# Altium schematic symbol library misc.SchLib: 11 symbols
Pins are listed as number, name and electrical type; pins without a type are passive.

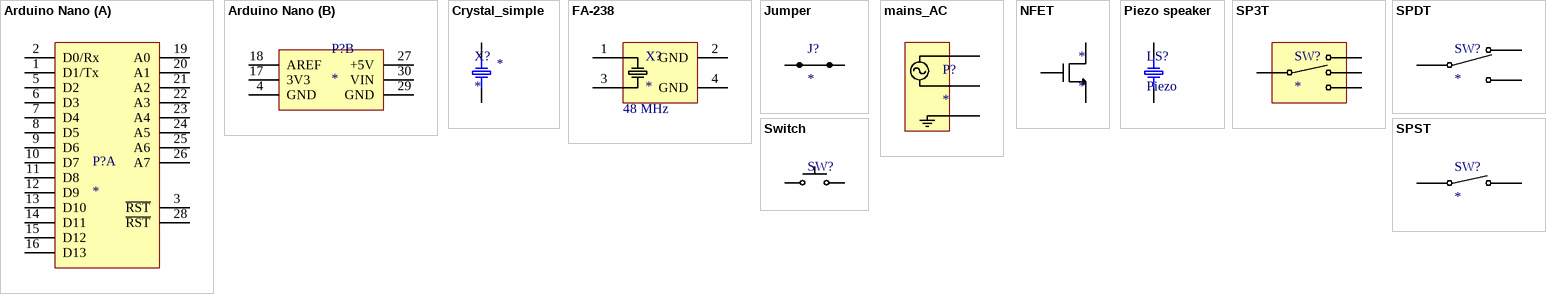
[diagram p0: symbols Arduino Nano to Switch]

## Arduino Nano
designator P?
footprint arduino nano
part A pins: 1 D1/Tx, 2 D0/Rx, 3 ~{RST}, 5 D2, 6 D3, 7 D4, 8 D5, 9 D6, 10 D7, 11 D8, 12 D9, 13 D10, 14 D11, 15 D12, 16 D13, 19 A0, 20 A1, 21 A2, 22 A3, 23 A4, 24 A5, 25 A6, 26 A7, 28 ~{RST}
part B pins: 4 GND, 17 3V3, 18 AREF, 27 +5V, 29 GND, 30 VIN

## Crystal_simple
designator X?
Load Capacitance: *; Frequency: *
pins: 1 OSC1, 2 OSC2

## FA-238
designator X?  Frequency: 48 MHz
Crystal oscillator SMD; Load Capacitance: *; ComponentLink1URL: http://www.mouser.com/ds/2/137/A-238_en-932914.pdf?src-supplier=Mouser; ComponentLink1Description: http://www.mouser.com/ds/2/137/A-238_en-932914.pdf?src-supplier=Mouser; ComponentLink2URL: https://support.epson.biz/td/api/doc_check.php?dl=brief_FA-238V_en.pdf&src-supplier=Digi-Key; ComponentLink2Description: https://support.epson.biz/td/api/doc_check.php?dl=brief_FA-238V_en.pdf&src-supplier=Digi-Key; ComponentLink3URL: https://www5.epsondevice.com/en/information/support/pdf/pcs_master_book.pdf?src-supplier=Digi-Key; ComponentLink3Description: https://www5.epsondevice.com/en/information/support/pdf/pcs_master_book.pdf?src-supplier=Digi-Key
pins: 1 OSC1, 2 GND "Connected to case", 3 OSC2, 4 GND "Connected to case"

## Jumper
designator J?
Jumper wire slot
footprint Jumper_TH_2wire_20AWG (A pair of holes for soldering in two 20 AWG wires to act as low-impedance jumpers)
footprint Jumper_TH_1wire_20AWG (A pair of holes for soldering in two 20 AWG wires to act as low-impedance jumpers)
pins: 1 14, 2 14

## mains_AC
designator P?
pins: 1 Live, 2 Neutral, 3 Ground

## NFET
designator *
pins: 1 Gate, 2 Source, 3 Drain

## Piezo speaker
designator LS?, comment Piezo
footprint Through hole piezo buzzer (PKM17EPPH4001)
pins: 1, 2

## SP3T
designator SW?
footprint Route-friendly Breakaway Header 4x1 (100 mil pitch breakaway header)
pins: 1, 2, 3, 4 Common

## SPDT
designator SW?
footprint Route-friendly Breakaway Header 3x1 (100 mil pitch breakaway header)
footprint Toggle switch, through hole, SPDT (ANT11SF1CQE)
pins: 1 2, 2 Common, 3 1

## SPST
designator SW?
footprint Route-friedly Breakaway Header 2x1 (100 mil pitch breakaway header)
pins: 1, 2

## Switch
designator SW?  (value not drawn)
Push button switch, momentary, normally open
footprint PUSHBUTTON
footprint THT_tactile_button
pins: 1, 2